# EAGLE library part TMUX1134 (library ic)
TMUX1134 TMUX1134 Analog selector 4 Channels 1.08 V to 5.5 V
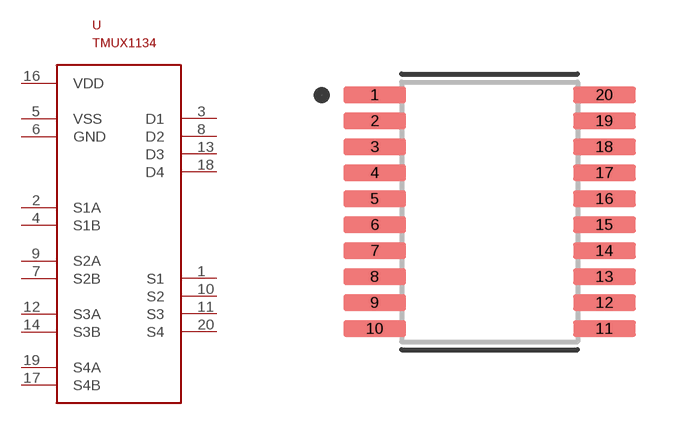
[diagram p1: symbol with the pads of SOP65P640X120-20N; footprint SOP65P640X120-20N]

Designator prefix -

## TMUX1134 (LINK: https://www.mouser.se/ProductDetail/Texas-Instruments/TMUX1134PWR?qs=%252B6g0mu59x7L8VGQncKsYmQ%3D%3D; MPN: TMUX1134PWR; SUPPLIER: Mouser)  [SOP65P640X120-20N]
1  S1
2  S1A
3  D1
4  S1B
5  VSS
6  GND
7  S2B
8  D2
9  S2A
10  S2
11  S3
12  S3A
13  D3
14  S3B
16  VDD
17  S4B
18  D4
19  S4A
20  S4

## Footprint SOP65P640X120-20N (pad centres in mm)
smd 1.57 x 0.41: 1 -2.87,2.925; 2 -2.87,2.275; 3 -2.87,1.625; 4 -2.87,0.975; 5 -2.87,0.325; 6 -2.87,-0.325; 7 -2.87,-0.975; 8 -2.87,-1.625; 9 -2.87,-2.275; 10 -2.87,-2.925; 11 2.87,-2.925; 12 2.87,-2.275; 13 2.87,-1.625; 14 2.87,-0.975; 15 2.87,-0.325; 16 2.87,0.325; 17 2.87,0.975; 18 2.87,1.625; 19 2.87,2.275; 20 2.87,2.925